# Altium integrated library TI Data Converters Digital to Analog Converter.IntLib: 1533 symbols (part 40 of 99)
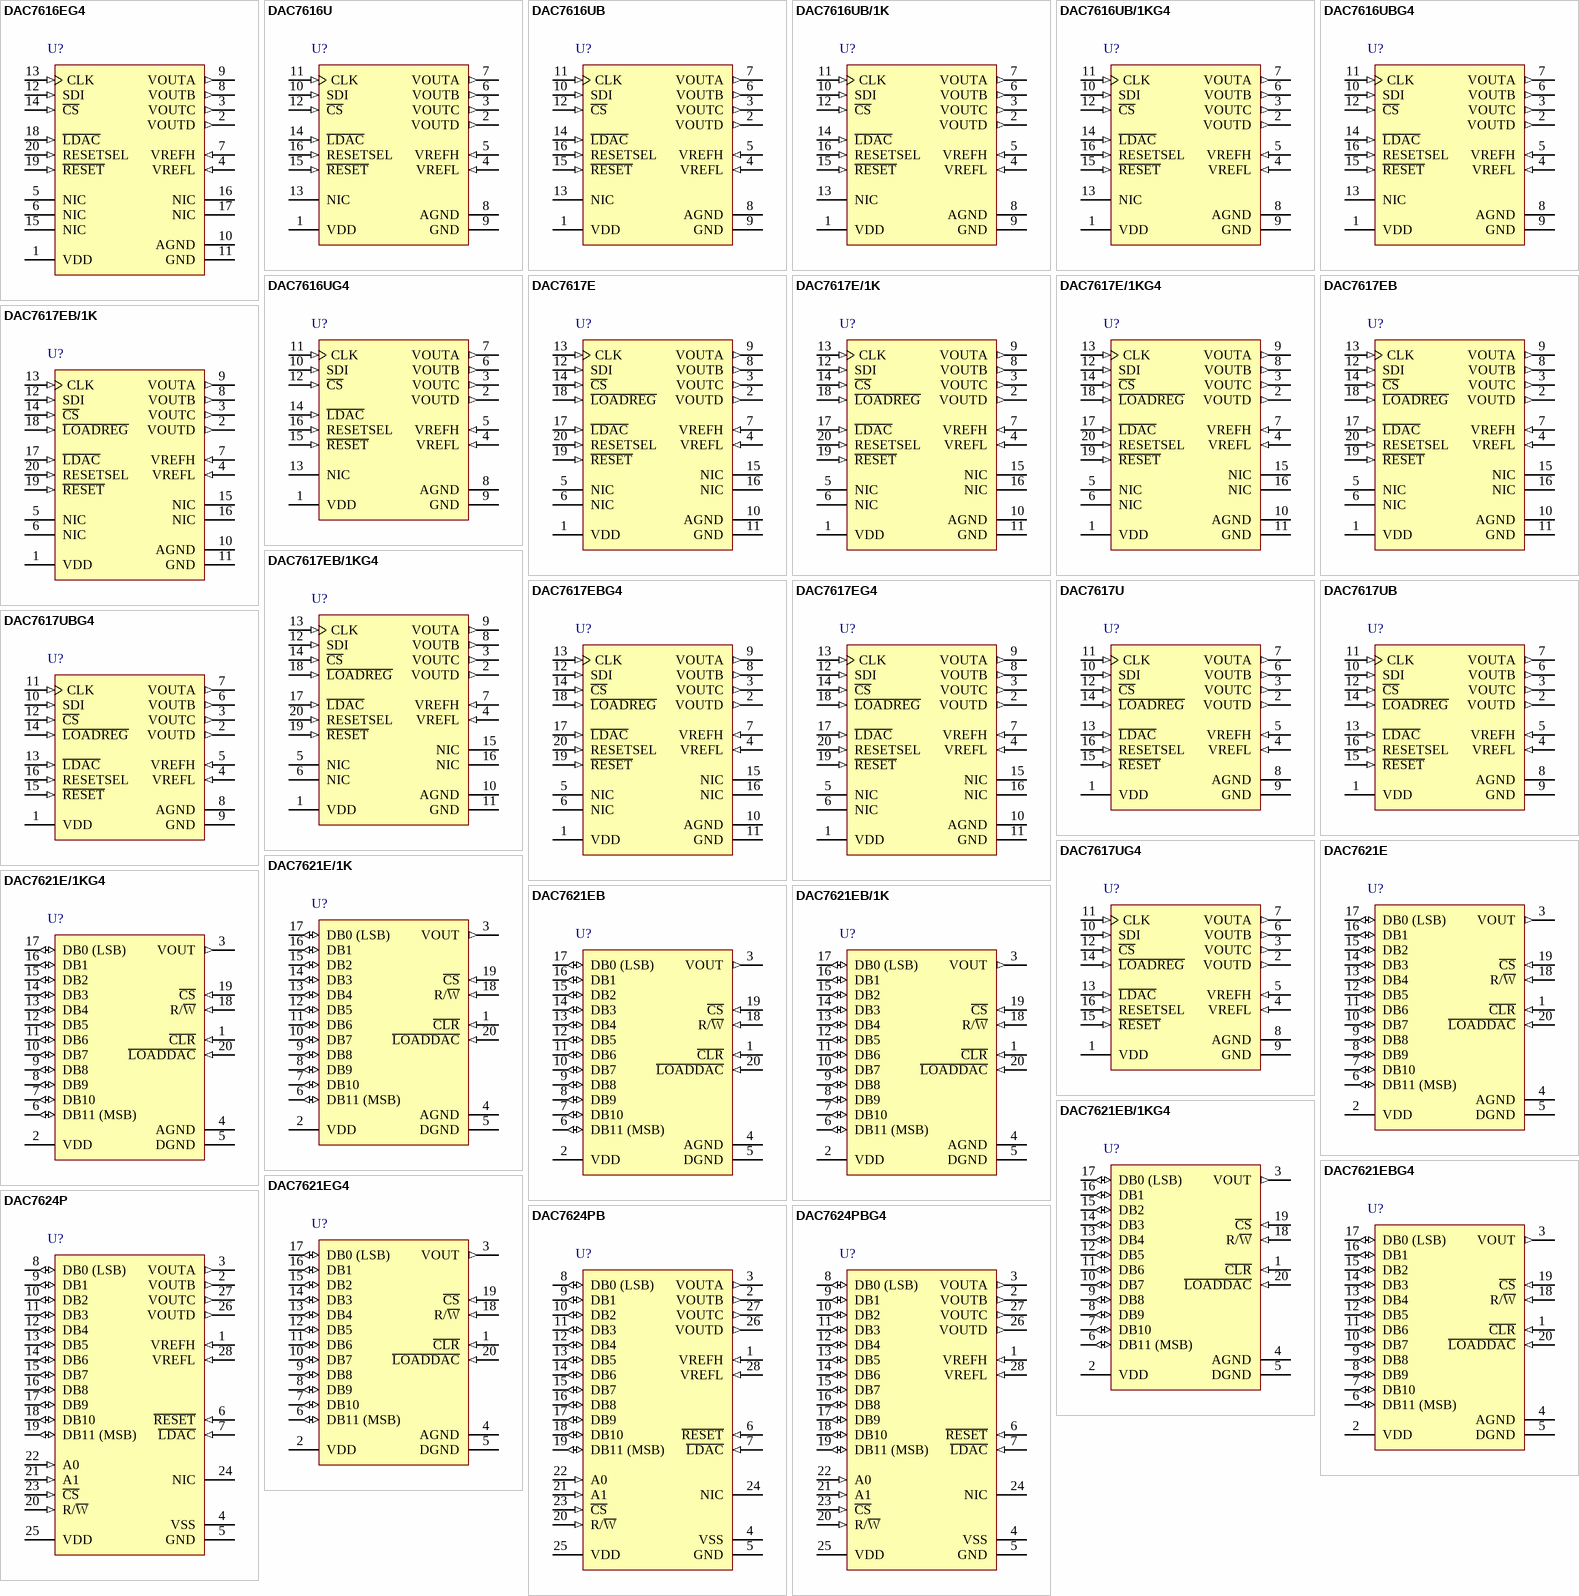
[diagram p112: symbols DAC7616EG4 to DAC7624PBG4]

## DAC7617UB
designator U?
Quad, Serial Input, 12-Bit, Voltage Output DAC, -40 to 85 degC, 16-pin SOIC (DW16), Green (RoHS & no Sb/Br); Manufacturer: Texas Instruments; PartNumber: DAC7617UB; DAC Channels: 4; DNL(Max)(+/-LSB): 1; Interface: Serial SPI; Power Consumption(Typ)(mW): 2.4; Resolution(Bits): 12; Settling Time(us): 10; SubFamily: Precision DAC (=<10MSPS); DatasheetVersion: SBAS185; PackageVersion: 4040000-2/G, 01/2011; PackageReference: DW16; PackageDescription: 16-Pin Plastic Small Outline, Body 10.30 x 7.50 mm, Pitch 1.27 mm; Supplier 1: Digi-Key; Supplier Part Number 1: DAC7617UB-ND; Supplier 2: Mouser; Supplier Part Number 2: 595-DAC7617UB; Eco-Plan: Green (RoHS & no Sb/Br); INL(Max)(+/-LSB): 1; Mounting Technology: Surface Mount; Code_JEDEC: MS-013; ComponentLink1Description: Manufacturer URL; ComponentLink1URL: http://www.ti.com/; ComponentLink2Description: Datasheet; ComponentLink2URL: http://www.ti.com/general/docs/lit/getliterature.tsp?genericPartNumber=DAC7617&fileType=pdf; ComponentLink3Description: Package Specification; ComponentLink3URL: http://www.ti.com/litv/pdf/msoi003g
footprint TI-DW16_N (SOIC, 16-Leads, Body 10.3x7.5mm, Pitch 1.27mm, IPC Medium Density)
footprint TI-DW16_L (SOIC, 16-Leads, Body 10.3x7.5mm, Pitch 1.27mm, IPC High Density)
footprint TI-DW16_M (SOIC, 16-Leads, Body 10.3x7.5mm, Pitch 1.27mm, IPC Low Density)
pins: 1 VDD (power) "Positive Analog Supply Voltage, +3V nominal.", 2 VOUTD (out) "DAC D Voltage Output", 3 VOUTC (out) "DAC C Voltage Output", 4 VREFL (in) "Reference Input Voltage Low. Sets minimum output voltage for all DACs.", 5 VREFH (in) "Reference Input Voltage High. Sets maximum output voltage for all DACs.", 6 VOUTB (out) "DAC B Voltage Output", 7 VOUTA (out) "DAC A Voltage Output", 8 AGND (power) "Analog Ground", 9 GND (power) "Ground", 10 SDI (in) "Serial Data Input", 11 CLK (in) "Serial Data Clock", 12 ~{CS} (in) "Chip Select Input", 13 ~{LDAC} (in) "All DAC registers become transparent when L\D\A\C\ is LOW. They are in the latched state when L\D\A\C\ is HIGH.", 14 ~{LOADREG} (in) "The selected input register becomes transparent when L\O\A\D\R\E\G\ is LOW. It is in the latched state when L\O\A\D\R\E\G\ is HIGH.", 15 ~{RESET} (in) "Asynchronous Reset Input. Sets DAC and input registers to either zero-scale (000H) or mid-scale (800H) when LOW. RESETSEL determines which code is active.", 16 RESETSEL (in) "When LOW, a LOW on R\E\S\E\T\ will cause the DAC and input registers to be set to code 000H. When RESETSEL is HIGH, a LOW on R\E\S\E\T\ will set the registers to code 800H."

## DAC7617UBG4
designator U?
Quad, Serial Input, 12-Bit, Voltage Output DAC, -40 to 85 degC, 16-pin SOIC (DW16), Green (RoHS & no Sb/Br); Manufacturer: Texas Instruments; PartNumber: DAC7617UBG4; DAC Channels: 4; DNL(Max)(+/-LSB): 1; Interface: Serial SPI; Power Consumption(Typ)(mW): 2.4; Resolution(Bits): 12; Settling Time(us): 10; SubFamily: Precision DAC (=<10MSPS); DatasheetVersion: SBAS185; PackageVersion: 4040000-2/G, 01/2011; PackageReference: DW16; PackageDescription: 16-Pin Plastic Small Outline, Body 10.30 x 7.50 mm, Pitch 1.27 mm; Supplier 1: Digi-Key; Supplier Part Number 1: DAC7617UBG4-ND; Supplier 2: Mouser; Supplier Part Number 2: 595-DAC7617UBG4; Eco-Plan: Green (RoHS & no Sb/Br); INL(Max)(+/-LSB): 1; Mounting Technology: Surface Mount; Code_JEDEC: MS-013; ComponentLink1Description: Manufacturer URL; ComponentLink1URL: http://www.ti.com/; ComponentLink2Description: Datasheet; ComponentLink2URL: http://www.ti.com/general/docs/lit/getliterature.tsp?genericPartNumber=DAC7617&fileType=pdf; ComponentLink3Description: Package Specification; ComponentLink3URL: http://www.ti.com/litv/pdf/msoi003g
footprint TI-DW16_N (SOIC, 16-Leads, Body 10.3x7.5mm, Pitch 1.27mm, IPC Medium Density)
footprint TI-DW16_L (SOIC, 16-Leads, Body 10.3x7.5mm, Pitch 1.27mm, IPC High Density)
footprint TI-DW16_M (SOIC, 16-Leads, Body 10.3x7.5mm, Pitch 1.27mm, IPC Low Density)
pins: 1 VDD (power) "Positive Analog Supply Voltage, +3V nominal.", 2 VOUTD (out) "DAC D Voltage Output", 3 VOUTC (out) "DAC C Voltage Output", 4 VREFL (in) "Reference Input Voltage Low. Sets minimum output voltage for all DACs.", 5 VREFH (in) "Reference Input Voltage High. Sets maximum output voltage for all DACs.", 6 VOUTB (out) "DAC B Voltage Output", 7 VOUTA (out) "DAC A Voltage Output", 8 AGND (power) "Analog Ground", 9 GND (power) "Ground", 10 SDI (in) "Serial Data Input", 11 CLK (in) "Serial Data Clock", 12 ~{CS} (in) "Chip Select Input", 13 ~{LDAC} (in) "All DAC registers become transparent when L\D\A\C\ is LOW. They are in the latched state when L\D\A\C\ is HIGH.", 14 ~{LOADREG} (in) "The selected input register becomes transparent when L\O\A\D\R\E\G\ is LOW. It is in the latched state when L\O\A\D\R\E\G\ is HIGH.", 15 ~{RESET} (in) "Asynchronous Reset Input. Sets DAC and input registers to either zero-scale (000H) or mid-scale (800H) when LOW. RESETSEL determines which code is active.", 16 RESETSEL (in) "When LOW, a LOW on R\E\S\E\T\ will cause the DAC and input registers to be set to code 000H. When RESETSEL is HIGH, a LOW on R\E\S\E\T\ will set the registers to code 800H."

## DAC7617UG4
designator U?
Quad, Serial Input, 12-Bit, Voltage Output DAC, -40 to 85 degC, 16-pin SOIC (DW16), Green (RoHS & no Sb/Br); Manufacturer: Texas Instruments; PartNumber: DAC7617UG4; DAC Channels: 4; DNL(Max)(+/-LSB): 1; INL(Max)(+/-LSB): 2; Interface: Serial SPI; Power Consumption(Typ)(mW): 2.4; Resolution(Bits): 12; Settling Time(us): 10; SubFamily: Precision DAC (=<10MSPS); DatasheetVersion: SBAS185; PackageVersion: 4040000-2/G, 01/2011; PackageReference: DW16; PackageDescription: 16-Pin Plastic Small Outline, Body 10.30 x 7.50 mm, Pitch 1.27 mm; Supplier 1: Digi-Key; Supplier Part Number 1: DAC7617UG4-ND; Supplier 2: Mouser; Supplier Part Number 2: 595-DAC7617UG4; Eco-Plan: Green (RoHS & no Sb/Br); Mounting Technology: Surface Mount; Code_JEDEC: MS-013; ComponentLink1Description: Manufacturer URL; ComponentLink1URL: http://www.ti.com/; ComponentLink2Description: Datasheet; ComponentLink2URL: http://www.ti.com/general/docs/lit/getliterature.tsp?genericPartNumber=DAC7617&fileType=pdf; ComponentLink3Description: Package Specification; ComponentLink3URL: http://www.ti.com/litv/pdf/msoi003g
footprint TI-DW16_N (SOIC, 16-Leads, Body 10.3x7.5mm, Pitch 1.27mm, IPC Medium Density)
footprint TI-DW16_L (SOIC, 16-Leads, Body 10.3x7.5mm, Pitch 1.27mm, IPC High Density)
footprint TI-DW16_M (SOIC, 16-Leads, Body 10.3x7.5mm, Pitch 1.27mm, IPC Low Density)
pins: 1 VDD (power) "Positive Analog Supply Voltage, +3V nominal.", 2 VOUTD (out) "DAC D Voltage Output", 3 VOUTC (out) "DAC C Voltage Output", 4 VREFL (in) "Reference Input Voltage Low. Sets minimum output voltage for all DACs.", 5 VREFH (in) "Reference Input Voltage High. Sets maximum output voltage for all DACs.", 6 VOUTB (out) "DAC B Voltage Output", 7 VOUTA (out) "DAC A Voltage Output", 8 AGND (power) "Analog Ground", 9 GND (power) "Ground", 10 SDI (in) "Serial Data Input", 11 CLK (in) "Serial Data Clock", 12 ~{CS} (in) "Chip Select Input", 13 ~{LDAC} (in) "All DAC registers become transparent when L\D\A\C\ is LOW. They are in the latched state when L\D\A\C\ is HIGH.", 14 ~{LOADREG} (in) "The selected input register becomes transparent when L\O\A\D\R\E\G\ is LOW. It is in the latched state when L\O\A\D\R\E\G\ is HIGH.", 15 ~{RESET} (in) "Asynchronous Reset Input. Sets DAC and input registers to either zero-scale (000H) or mid-scale (800H) when LOW. RESETSEL determines which code is active.", 16 RESETSEL (in) "When LOW, a LOW on R\E\S\E\T\ will cause the DAC and input registers to be set to code 000H. When RESETSEL is HIGH, a LOW on R\E\S\E\T\ will set the registers to code 800H."

## DAC7621E
designator U?
12-Bit, Parallel Input DAC, -40 to 85 degC, 20-pin SOP (DB20), Green (RoHS & no Sb/Br); Manufacturer: Texas Instruments; PartNumber: DAC7621E; DAC Channels: 1; Power Consumption(Typ)(mW): 2.5; Resolution(Bits): 12; Settling Time(us): 7; SubFamily: Precision DAC (=<10MSPS); DatasheetVersion: SBAS107; PackageVersion: 4040065/E, 12/2001; PackageReference: DB20; PackageDescription: 20-Pin Plastic Small Outline, Body 5.3 x 7.2 mm, Pitch 0.65 mm; Supplier 1: Mouser; Supplier Part Number 1: 595-DAC7621E; DNL(Max)(+/-LSB): 1; Eco-Plan: Green (RoHS & no Sb/Br); Interface: Parallel; Mounting Technology: Surface Mount; Code_JEDEC: MO-150; ComponentLink1Description: Manufacturer URL; ComponentLink1URL: http://www.ti.com/; ComponentLink2Description: Datasheet; ComponentLink2URL: http://www.ti.com/general/docs/lit/getliterature.tsp?genericPartNumber=DAC7621&fileType=pdf; ComponentLink3Description: Package Specification; ComponentLink3URL: http://www.ti.com/lit/ml/msso002e/msso002e.pdf
footprint TI-DB20_N (SOP, 20-Leads, Body 7.2x5.3mm, Pitch 0.65mm, IPC Medium Density)
footprint TI-DB20_L (SOP, 20-Leads, Body 7.2x5.3mm, Pitch 0.65mm, IPC High Density)
footprint TI-DB20_M (SOP, 20-Leads, Body 7.2x5.3mm, Pitch 0.65mm, IPC Low Density)
pins: 1 ~{CLR} (in) "Reset. Resets the DAC register to zero. Active LOW. Asynchronous input.", 2 VDD (power) "Postive Power Supply", 3 VOUT (out) "DAC Output Voltage", 4 AGND (power) "Analog Ground", 5 DGND (power) "Digital Ground", 6 DB11 (MSB) (io) "Data Bit 11, MSB", 7 DB10 (io) "Data Bit 10", 8 DB9 (io) "Data Bit 10", 9 DB8 (io) "Data Bit 10", 10 DB7 (io) "Data Bit 10", 11 DB6 (io) "Data Bit 10", 12 DB5 (io) "Data Bit 10", 13 DB4 (io) "Data Bit 10", 14 DB3 (io) "Data Bit 10", 15 DB2 (io) "Data Bit 10", 16 DB1 (io) "Data Bit 10", 17 DB0 (LSB) (io) "Data Bit 0, LSB", 18 R/~{W} (in) "Read and Write Control", 19 ~{CS} (in) "Chip Select. Active LOW", 20 ~{LOADDAC} (in) "Loads the internal DAC register. The DAC register is a transparent latch and is transparent when L\O\A\D\D\A\C\ is LOW (regardless of the state of C\S\ or CLK)."

## DAC7621E/1K
designator U?
12-Bit, Parallel Input DAC, -40 to 85 degC, 20-pin SOP (DB20), Green (RoHS & no Sb/Br); Manufacturer: Texas Instruments; PartNumber: DAC7621E/1K; DAC Channels: 1; Power Consumption(Typ)(mW): 2.5; Resolution(Bits): 12; Settling Time(us): 7; SubFamily: Precision DAC (=<10MSPS); DatasheetVersion: SBAS107; PackageVersion: 4040065/E, 12/2001; PackageReference: DB20; PackageDescription: 20-Pin Plastic Small Outline, Body 5.3 x 7.2 mm, Pitch 0.65 mm; Supplier 1: Digi-Key; Supplier Part Number 1: DAC7621E/1K-ND; Supplier 2: Newark; Supplier Part Number 2: 74C9204; Supplier 3: Mouser; Supplier Part Number 3: 595-DAC7621E/1K; DNL(Max)(+/-LSB): 1; Eco-Plan: Green (RoHS & no Sb/Br); Interface: Parallel; Mounting Technology: Surface Mount; Code_JEDEC: MO-150; ComponentLink1Description: Manufacturer URL; ComponentLink1URL: http://www.ti.com/; ComponentLink2Description: Datasheet; ComponentLink2URL: http://www.ti.com/general/docs/lit/getliterature.tsp?genericPartNumber=DAC7621&fileType=pdf; ComponentLink3Description: Package Specification; ComponentLink3URL: http://www.ti.com/lit/ml/msso002e/msso002e.pdf
footprint TI-DB20_N (SOP, 20-Leads, Body 7.2x5.3mm, Pitch 0.65mm, IPC Medium Density)
footprint TI-DB20_L (SOP, 20-Leads, Body 7.2x5.3mm, Pitch 0.65mm, IPC High Density)
footprint TI-DB20_M (SOP, 20-Leads, Body 7.2x5.3mm, Pitch 0.65mm, IPC Low Density)
pins: 1 ~{CLR} (in) "Reset. Resets the DAC register to zero. Active LOW. Asynchronous input.", 2 VDD (power) "Postive Power Supply", 3 VOUT (out) "DAC Output Voltage", 4 AGND (power) "Analog Ground", 5 DGND (power) "Digital Ground", 6 DB11 (MSB) (io) "Data Bit 11, MSB", 7 DB10 (io) "Data Bit 10", 8 DB9 (io) "Data Bit 10", 9 DB8 (io) "Data Bit 10", 10 DB7 (io) "Data Bit 10", 11 DB6 (io) "Data Bit 10", 12 DB5 (io) "Data Bit 10", 13 DB4 (io) "Data Bit 10", 14 DB3 (io) "Data Bit 10", 15 DB2 (io) "Data Bit 10", 16 DB1 (io) "Data Bit 10", 17 DB0 (LSB) (io) "Data Bit 0, LSB", 18 R/~{W} (in) "Read and Write Control", 19 ~{CS} (in) "Chip Select. Active LOW", 20 ~{LOADDAC} (in) "Loads the internal DAC register. The DAC register is a transparent latch and is transparent when L\O\A\D\D\A\C\ is LOW (regardless of the state of C\S\ or CLK)."

## DAC7621E/1KG4
designator U?
12-Bit, Parallel Input DAC, -40 to 85 degC, 20-pin SOP (DB20), Green (RoHS & no Sb/Br); Manufacturer: Texas Instruments; PartNumber: DAC7621E/1KG4; DAC Channels: 1; Power Consumption(Typ)(mW): 2.5; Resolution(Bits): 12; Settling Time(us): 7; SubFamily: Precision DAC (=<10MSPS); DatasheetVersion: SBAS107; PackageVersion: 4040065/E, 12/2001; PackageReference: DB20; PackageDescription: 20-Pin Plastic Small Outline, Body 5.3 x 7.2 mm, Pitch 0.65 mm; Supplier 1: Digi-Key; Supplier Part Number 1: DAC7621E/1KG4-ND; Supplier 2: Mouser; Supplier Part Number 2: 595-DAC7621E/1KG4; DNL(Max)(+/-LSB): 1; Eco-Plan: Green (RoHS & no Sb/Br); Interface: Parallel; Mounting Technology: Surface Mount; Code_JEDEC: MO-150; ComponentLink1Description: Manufacturer URL; ComponentLink1URL: http://www.ti.com/; ComponentLink2Description: Datasheet; ComponentLink2URL: http://www.ti.com/general/docs/lit/getliterature.tsp?genericPartNumber=DAC7621&fileType=pdf; ComponentLink3Description: Package Specification; ComponentLink3URL: http://www.ti.com/lit/ml/msso002e/msso002e.pdf
footprint TI-DB20_N (SOP, 20-Leads, Body 7.2x5.3mm, Pitch 0.65mm, IPC Medium Density)
footprint TI-DB20_L (SOP, 20-Leads, Body 7.2x5.3mm, Pitch 0.65mm, IPC High Density)
footprint TI-DB20_M (SOP, 20-Leads, Body 7.2x5.3mm, Pitch 0.65mm, IPC Low Density)
pins: 1 ~{CLR} (in) "Reset. Resets the DAC register to zero. Active LOW. Asynchronous input.", 2 VDD (power) "Postive Power Supply", 3 VOUT (out) "DAC Output Voltage", 4 AGND (power) "Analog Ground", 5 DGND (power) "Digital Ground", 6 DB11 (MSB) (io) "Data Bit 11, MSB", 7 DB10 (io) "Data Bit 10", 8 DB9 (io) "Data Bit 10", 9 DB8 (io) "Data Bit 10", 10 DB7 (io) "Data Bit 10", 11 DB6 (io) "Data Bit 10", 12 DB5 (io) "Data Bit 10", 13 DB4 (io) "Data Bit 10", 14 DB3 (io) "Data Bit 10", 15 DB2 (io) "Data Bit 10", 16 DB1 (io) "Data Bit 10", 17 DB0 (LSB) (io) "Data Bit 0, LSB", 18 R/~{W} (in) "Read and Write Control", 19 ~{CS} (in) "Chip Select. Active LOW", 20 ~{LOADDAC} (in) "Loads the internal DAC register. The DAC register is a transparent latch and is transparent when L\O\A\D\D\A\C\ is LOW (regardless of the state of C\S\ or CLK)."

## DAC7621EB
designator U?
12-Bit, Parallel Input DAC, -40 to 85 degC, 20-pin SOP (DB20), Green (RoHS & no Sb/Br); Manufacturer: Texas Instruments; PartNumber: DAC7621EB; DAC Channels: 1; Power Consumption(Typ)(mW): 2.5; Resolution(Bits): 12; Settling Time(us): 7; SubFamily: Precision DAC (=<10MSPS); DatasheetVersion: SBAS107; PackageVersion: 4040065/E, 12/2001; PackageReference: DB20; PackageDescription: 20-Pin Plastic Small Outline, Body 5.3 x 7.2 mm, Pitch 0.65 mm; Supplier 1: Digi-Key; Supplier Part Number 1: DAC7621EB-ND; Supplier 2: Farnell; Supplier Part Number 2: 1460216; Supplier 3: Mouser; Supplier Part Number 3: 595-DAC7621EB; DNL(Max)(+/-LSB): 1; Eco-Plan: Green (RoHS & no Sb/Br); Interface: Parallel; Mounting Technology: Surface Mount; Code_JEDEC: MO-150; ComponentLink1Description: Manufacturer URL; ComponentLink1URL: http://www.ti.com/; ComponentLink2Description: Datasheet; ComponentLink2URL: http://www.ti.com/general/docs/lit/getliterature.tsp?genericPartNumber=DAC7621&fileType=pdf; ComponentLink3Description: Package Specification; ComponentLink3URL: http://www.ti.com/lit/ml/msso002e/msso002e.pdf
footprint TI-DB20_N (SOP, 20-Leads, Body 7.2x5.3mm, Pitch 0.65mm, IPC Medium Density)
footprint TI-DB20_L (SOP, 20-Leads, Body 7.2x5.3mm, Pitch 0.65mm, IPC High Density)
footprint TI-DB20_M (SOP, 20-Leads, Body 7.2x5.3mm, Pitch 0.65mm, IPC Low Density)
pins: 1 ~{CLR} (in) "Reset. Resets the DAC register to zero. Active LOW. Asynchronous input.", 2 VDD (power) "Postive Power Supply", 3 VOUT (out) "DAC Output Voltage", 4 AGND (power) "Analog Ground", 5 DGND (power) "Digital Ground", 6 DB11 (MSB) (io) "Data Bit 11, MSB", 7 DB10 (io) "Data Bit 10", 8 DB9 (io) "Data Bit 10", 9 DB8 (io) "Data Bit 10", 10 DB7 (io) "Data Bit 10", 11 DB6 (io) "Data Bit 10", 12 DB5 (io) "Data Bit 10", 13 DB4 (io) "Data Bit 10", 14 DB3 (io) "Data Bit 10", 15 DB2 (io) "Data Bit 10", 16 DB1 (io) "Data Bit 10", 17 DB0 (LSB) (io) "Data Bit 0, LSB", 18 R/~{W} (in) "Read and Write Control", 19 ~{CS} (in) "Chip Select. Active LOW", 20 ~{LOADDAC} (in) "Loads the internal DAC register. The DAC register is a transparent latch and is transparent when L\O\A\D\D\A\C\ is LOW (regardless of the state of C\S\ or CLK)."

## DAC7621EB/1K
designator U?
12-Bit, Parallel Input DAC, -40 to 85 degC, 20-pin SOP (DB20), Green (RoHS & no Sb/Br); Manufacturer: Texas Instruments; PartNumber: DAC7621EB/1K; DAC Channels: 1; Power Consumption(Typ)(mW): 2.5; Resolution(Bits): 12; Settling Time(us): 7; SubFamily: Precision DAC (=<10MSPS); DatasheetVersion: SBAS107; PackageVersion: 4040065/E, 12/2001; PackageReference: DB20; PackageDescription: 20-Pin Plastic Small Outline, Body 5.3 x 7.2 mm, Pitch 0.65 mm; Supplier 1: Digi-Key; Supplier Part Number 1: DAC7621EB/1K-ND; Supplier 2: Mouser; Supplier Part Number 2: 595-DAC7621EB/1K; DNL(Max)(+/-LSB): 1; Eco-Plan: Green (RoHS & no Sb/Br); Interface: Parallel; Mounting Technology: Surface Mount; Code_JEDEC: MO-150; ComponentLink1Description: Manufacturer URL; ComponentLink1URL: http://www.ti.com/; ComponentLink2Description: Datasheet; ComponentLink2URL: http://www.ti.com/general/docs/lit/getliterature.tsp?genericPartNumber=DAC7621&fileType=pdf; ComponentLink3Description: Package Specification; ComponentLink3URL: http://www.ti.com/lit/ml/msso002e/msso002e.pdf
footprint TI-DB20_N (SOP, 20-Leads, Body 7.2x5.3mm, Pitch 0.65mm, IPC Medium Density)
footprint TI-DB20_L (SOP, 20-Leads, Body 7.2x5.3mm, Pitch 0.65mm, IPC High Density)
footprint TI-DB20_M (SOP, 20-Leads, Body 7.2x5.3mm, Pitch 0.65mm, IPC Low Density)
pins: 1 ~{CLR} (in) "Reset. Resets the DAC register to zero. Active LOW. Asynchronous input.", 2 VDD (power) "Postive Power Supply", 3 VOUT (out) "DAC Output Voltage", 4 AGND (power) "Analog Ground", 5 DGND (power) "Digital Ground", 6 DB11 (MSB) (io) "Data Bit 11, MSB", 7 DB10 (io) "Data Bit 10", 8 DB9 (io) "Data Bit 10", 9 DB8 (io) "Data Bit 10", 10 DB7 (io) "Data Bit 10", 11 DB6 (io) "Data Bit 10", 12 DB5 (io) "Data Bit 10", 13 DB4 (io) "Data Bit 10", 14 DB3 (io) "Data Bit 10", 15 DB2 (io) "Data Bit 10", 16 DB1 (io) "Data Bit 10", 17 DB0 (LSB) (io) "Data Bit 0, LSB", 18 R/~{W} (in) "Read and Write Control", 19 ~{CS} (in) "Chip Select. Active LOW", 20 ~{LOADDAC} (in) "Loads the internal DAC register. The DAC register is a transparent latch and is transparent when L\O\A\D\D\A\C\ is LOW (regardless of the state of C\S\ or CLK)."

## DAC7621EB/1KG4
designator U?
12-Bit, Parallel Input DAC, -40 to 85 degC, 20-pin SOP (DB20), Green (RoHS & no Sb/Br); Manufacturer: Texas Instruments; PartNumber: DAC7621EB/1KG4; DAC Channels: 1; Power Consumption(Typ)(mW): 2.5; Resolution(Bits): 12; Settling Time(us): 7; SubFamily: Precision DAC (=<10MSPS); DatasheetVersion: SBAS107; PackageVersion: 4040065/E, 12/2001; PackageReference: DB20; PackageDescription: 20-Pin Plastic Small Outline, Body 5.3 x 7.2 mm, Pitch 0.65 mm; Supplier 1: Digi-Key; Supplier Part Number 1: DAC7621EB/1KG4-ND; Supplier 2: Mouser; Supplier Part Number 2: 595-DAC7621EB/1KG4; DNL(Max)(+/-LSB): 1; Eco-Plan: Green (RoHS & no Sb/Br); Interface: Parallel; Mounting Technology: Surface Mount; Code_JEDEC: MO-150; ComponentLink1Description: Manufacturer URL; ComponentLink1URL: http://www.ti.com/; ComponentLink2Description: Datasheet; ComponentLink2URL: http://www.ti.com/general/docs/lit/getliterature.tsp?genericPartNumber=DAC7621&fileType=pdf; ComponentLink3Description: Package Specification; ComponentLink3URL: http://www.ti.com/lit/ml/msso002e/msso002e.pdf
footprint TI-DB20_N (SOP, 20-Leads, Body 7.2x5.3mm, Pitch 0.65mm, IPC Medium Density)
footprint TI-DB20_L (SOP, 20-Leads, Body 7.2x5.3mm, Pitch 0.65mm, IPC High Density)
footprint TI-DB20_M (SOP, 20-Leads, Body 7.2x5.3mm, Pitch 0.65mm, IPC Low Density)
pins: 1 ~{CLR} (in) "Reset. Resets the DAC register to zero. Active LOW. Asynchronous input.", 2 VDD (power) "Postive Power Supply", 3 VOUT (out) "DAC Output Voltage", 4 AGND (power) "Analog Ground", 5 DGND (power) "Digital Ground", 6 DB11 (MSB) (io) "Data Bit 11, MSB", 7 DB10 (io) "Data Bit 10", 8 DB9 (io) "Data Bit 10", 9 DB8 (io) "Data Bit 10", 10 DB7 (io) "Data Bit 10", 11 DB6 (io) "Data Bit 10", 12 DB5 (io) "Data Bit 10", 13 DB4 (io) "Data Bit 10", 14 DB3 (io) "Data Bit 10", 15 DB2 (io) "Data Bit 10", 16 DB1 (io) "Data Bit 10", 17 DB0 (LSB) (io) "Data Bit 0, LSB", 18 R/~{W} (in) "Read and Write Control", 19 ~{CS} (in) "Chip Select. Active LOW", 20 ~{LOADDAC} (in) "Loads the internal DAC register. The DAC register is a transparent latch and is transparent when L\O\A\D\D\A\C\ is LOW (regardless of the state of C\S\ or CLK)."

## DAC7621EBG4
designator U?
12-Bit, Parallel Input DAC, -40 to 85 degC, 20-pin SOP (DB20), Green (RoHS & no Sb/Br); Manufacturer: Texas Instruments; PartNumber: DAC7621EBG4; DAC Channels: 1; Power Consumption(Typ)(mW): 2.5; Resolution(Bits): 12; Settling Time(us): 7; SubFamily: Precision DAC (=<10MSPS); DatasheetVersion: SBAS107; PackageVersion: 4040065/E, 12/2001; PackageReference: DB20; PackageDescription: 20-Pin Plastic Small Outline, Body 5.3 x 7.2 mm, Pitch 0.65 mm; Supplier 1: Digi-Key; Supplier Part Number 1: DAC7621EBG4-ND; Supplier 2: Mouser; Supplier Part Number 2: 595-DAC7621EBG4; DNL(Max)(+/-LSB): 1; Eco-Plan: Green (RoHS & no Sb/Br); Interface: Parallel; Mounting Technology: Surface Mount; Code_JEDEC: MO-150; ComponentLink1Description: Manufacturer URL; ComponentLink1URL: http://www.ti.com/; ComponentLink2Description: Datasheet; ComponentLink2URL: http://www.ti.com/general/docs/lit/getliterature.tsp?genericPartNumber=DAC7621&fileType=pdf; ComponentLink3Description: Package Specification; ComponentLink3URL: http://www.ti.com/lit/ml/msso002e/msso002e.pdf
footprint TI-DB20_N (SOP, 20-Leads, Body 7.2x5.3mm, Pitch 0.65mm, IPC Medium Density)
footprint TI-DB20_L (SOP, 20-Leads, Body 7.2x5.3mm, Pitch 0.65mm, IPC High Density)
footprint TI-DB20_M (SOP, 20-Leads, Body 7.2x5.3mm, Pitch 0.65mm, IPC Low Density)
pins: 1 ~{CLR} (in) "Reset. Resets the DAC register to zero. Active LOW. Asynchronous input.", 2 VDD (power) "Postive Power Supply", 3 VOUT (out) "DAC Output Voltage", 4 AGND (power) "Analog Ground", 5 DGND (power) "Digital Ground", 6 DB11 (MSB) (io) "Data Bit 11, MSB", 7 DB10 (io) "Data Bit 10", 8 DB9 (io) "Data Bit 10", 9 DB8 (io) "Data Bit 10", 10 DB7 (io) "Data Bit 10", 11 DB6 (io) "Data Bit 10", 12 DB5 (io) "Data Bit 10", 13 DB4 (io) "Data Bit 10", 14 DB3 (io) "Data Bit 10", 15 DB2 (io) "Data Bit 10", 16 DB1 (io) "Data Bit 10", 17 DB0 (LSB) (io) "Data Bit 0, LSB", 18 R/~{W} (in) "Read and Write Control", 19 ~{CS} (in) "Chip Select. Active LOW", 20 ~{LOADDAC} (in) "Loads the internal DAC register. The DAC register is a transparent latch and is transparent when L\O\A\D\D\A\C\ is LOW (regardless of the state of C\S\ or CLK)."

## DAC7621EG4
designator U?
12-Bit, Parallel Input DAC, -40 to 85 degC, 20-pin SOP (DB20), Green (RoHS & no Sb/Br); Manufacturer: Texas Instruments; PartNumber: DAC7621EG4; DAC Channels: 1; Power Consumption(Typ)(mW): 2.5; Resolution(Bits): 12; Settling Time(us): 7; SubFamily: Precision DAC (=<10MSPS); DatasheetVersion: SBAS107; PackageVersion: 4040065/E, 12/2001; PackageReference: DB20; PackageDescription: 20-Pin Plastic Small Outline, Body 5.3 x 7.2 mm, Pitch 0.65 mm; Supplier 1: Digi-Key; Supplier Part Number 1: DAC7621EG4-ND; Supplier 2: Mouser; Supplier Part Number 2: 595-DAC7621EG4; DNL(Max)(+/-LSB): 1; Eco-Plan: Green (RoHS & no Sb/Br); Interface: Parallel; Mounting Technology: Surface Mount; Code_JEDEC: MO-150; ComponentLink1Description: Manufacturer URL; ComponentLink1URL: http://www.ti.com/; ComponentLink2Description: Datasheet; ComponentLink2URL: http://www.ti.com/general/docs/lit/getliterature.tsp?genericPartNumber=DAC7621&fileType=pdf; ComponentLink3Description: Package Specification; ComponentLink3URL: http://www.ti.com/lit/ml/msso002e/msso002e.pdf
footprint TI-DB20_N (SOP, 20-Leads, Body 7.2x5.3mm, Pitch 0.65mm, IPC Medium Density)
footprint TI-DB20_L (SOP, 20-Leads, Body 7.2x5.3mm, Pitch 0.65mm, IPC High Density)
footprint TI-DB20_M (SOP, 20-Leads, Body 7.2x5.3mm, Pitch 0.65mm, IPC Low Density)
pins: 1 ~{CLR} (in) "Reset. Resets the DAC register to zero. Active LOW. Asynchronous input.", 2 VDD (power) "Postive Power Supply", 3 VOUT (out) "DAC Output Voltage", 4 AGND (power) "Analog Ground", 5 DGND (power) "Digital Ground", 6 DB11 (MSB) (io) "Data Bit 11, MSB", 7 DB10 (io) "Data Bit 10", 8 DB9 (io) "Data Bit 10", 9 DB8 (io) "Data Bit 10", 10 DB7 (io) "Data Bit 10", 11 DB6 (io) "Data Bit 10", 12 DB5 (io) "Data Bit 10", 13 DB4 (io) "Data Bit 10", 14 DB3 (io) "Data Bit 10", 15 DB2 (io) "Data Bit 10", 16 DB1 (io) "Data Bit 10", 17 DB0 (LSB) (io) "Data Bit 0, LSB", 18 R/~{W} (in) "Read and Write Control", 19 ~{CS} (in) "Chip Select. Active LOW", 20 ~{LOADDAC} (in) "Loads the internal DAC register. The DAC register is a transparent latch and is transparent when L\O\A\D\D\A\C\ is LOW (regardless of the state of C\S\ or CLK)."

## DAC7624P
designator U?
12-Bit Quad Voltage Output DAC, -40 to 85 degC, 28-pin DIP (NTD28), Green (RoHS & no Sb/Br); Manufacturer: Texas Instruments; PartNumber: DAC7624P; DAC Channels: 4; DNL(Max)(+/-LSB): 1; INL(Max)(+/-LSB): 2; Interface: Parallel; Power Consumption(Typ)(mW): 15; Resolution(Bits): 12; Settling Time(us): 10; SubFamily: Precision DAC (=<10MSPS); DatasheetVersion: SBAS083; PackageVersion: 4202496/A, 03/2001; PackageReference: NTD28; PackageDescription: 28-Pin Plastic Dual-In-Line, Body 37.4 x 13.525 mm, Pitch 2.54 mm; Supplier 1: Digi-Key; Supplier Part Number 1: DAC7624P-ND; Supplier 2: Mouser; Supplier Part Number 2: 595-DAC7624P; Eco-Plan: Green (RoHS & no Sb/Br); Mounting Technology: Through Hole; Code_JEDEC: MS-011-AB; ComponentLink1Description: Manufacturer URL; ComponentLink1URL: http://www.ti.com/; ComponentLink2Description: Datasheet; ComponentLink2URL: http://www.ti.com/general/docs/lit/getliterature.tsp?genericPartNumber=DAC7624&fileType=pdf; ComponentLink3Description: Package Specification; ComponentLink3URL: http://www.ti.com/litv/pdf/mpdi056
footprint TI-NTD28 (DIP, 28-Leads, Body 37.4x13.525mm, Pitch 2.54mm)
pins: 1 VREFH (in) "Reference Input Voltage High. Sets maximum output voltage for all DACs.", 2 VOUTB (out) "DAC B Voltage Output.", 3 VOUTA (out) "DAC A Voltage Output.", 4 VSS (power) "Negative Analog Supply Voltage, 0V or -5V.", 5 GND (power) "Ground.", 6 ~{RESET} (in) "Asynchronous Reset Input. Sets DAC and input registers to either mid-scale (800H, DAC7624) or zero-scale (000H, DAC7625) when LOW.", 7 ~{LDAC} (in) "Load DAC Input. All DAC Registers are transparent when LOW.", 8 DB0 (LSB) (io) "Data Bit 0. Least significant bit of 12-bit word.", 9 DB1 (io) "Data Bit 1", 10 DB2 (io) "Data Bit 2", 11 DB3 (io) "Data Bit 3", 12 DB4 (io) "Data Bit 4", 13 DB5 (io) "Data Bit 5", 14 DB6 (io) "Data Bit 6", 15 DB7 (io) "Data Bit 7", 16 DB8 (io) "Data Bit 8", 17 DB9 (io) "Data Bit 9", 18 DB10 (io) "Data Bit 10", 19 DB11 (MSB) (io) "Data Bit 11. Most significant bit of 12-bit word.", 20 R/~{W} (in) "Read/Write Control Input (read = HIGH, write = LOW).", 21 A1 (in) "Register/DAC Select (C or D = HIGH, A or B = LOW).", 22 A0 (in) "Register/DAC Select (B or D = HIGH, A or C = LOW).", 23 ~{CS} (in) "Chip Select Input.", 24 NIC "Not Internally Connected. Pin has no internal connection to the device.", 25 VDD (power) "Positive Analog Supply Voltage, +5V nominal.", 26 VOUTD (out) "DAC D Voltage Output.", 27 VOUTC (out) "DAC C Voltage Output.", 28 VREFL (in) "Reference Input Voltage Low. Sets minimum output voltage for all DACs."

## DAC7624PB
designator U?
12-Bit Quad Voltage Output DAC, -40 to 85 degC, 28-pin DIP (NTD28), Green (RoHS & no Sb/Br); Manufacturer: Texas Instruments; PartNumber: DAC7624PB; DAC Channels: 4; DNL(Max)(+/-LSB): 1; Interface: Parallel; Power Consumption(Typ)(mW): 15; Resolution(Bits): 12; Settling Time(us): 10; SubFamily: Precision DAC (=<10MSPS); DatasheetVersion: SBAS083; PackageVersion: 4202496/A, 03/2001; PackageReference: NTD28; PackageDescription: 28-Pin Plastic Dual-In-Line, Body 37.4 x 13.525 mm, Pitch 2.54 mm; Supplier 1: Digi-Key; Supplier Part Number 1: DAC7624PB-ND; Supplier 2: Mouser; Supplier Part Number 2: 595-DAC7624PB; Eco-Plan: Green (RoHS & no Sb/Br); INL(Max)(+/-LSB): 1; Mounting Technology: Through Hole; Code_JEDEC: MS-011-AB; ComponentLink1Description: Manufacturer URL; ComponentLink1URL: http://www.ti.com/; ComponentLink2Description: Datasheet; ComponentLink2URL: http://www.ti.com/general/docs/lit/getliterature.tsp?genericPartNumber=DAC7624&fileType=pdf; ComponentLink3Description: Package Specification; ComponentLink3URL: http://www.ti.com/litv/pdf/mpdi056
footprint TI-NTD28 (DIP, 28-Leads, Body 37.4x13.525mm, Pitch 2.54mm)
pins: 1 VREFH (in) "Reference Input Voltage High. Sets maximum output voltage for all DACs.", 2 VOUTB (out) "DAC B Voltage Output.", 3 VOUTA (out) "DAC A Voltage Output.", 4 VSS (power) "Negative Analog Supply Voltage, 0V or -5V.", 5 GND (power) "Ground.", 6 ~{RESET} (in) "Asynchronous Reset Input. Sets DAC and input registers to either mid-scale (800H, DAC7624) or zero-scale (000H, DAC7625) when LOW.", 7 ~{LDAC} (in) "Load DAC Input. All DAC Registers are transparent when LOW.", 8 DB0 (LSB) (io) "Data Bit 0. Least significant bit of 12-bit word.", 9 DB1 (io) "Data Bit 1", 10 DB2 (io) "Data Bit 2", 11 DB3 (io) "Data Bit 3", 12 DB4 (io) "Data Bit 4", 13 DB5 (io) "Data Bit 5", 14 DB6 (io) "Data Bit 6", 15 DB7 (io) "Data Bit 7", 16 DB8 (io) "Data Bit 8", 17 DB9 (io) "Data Bit 9", 18 DB10 (io) "Data Bit 10", 19 DB11 (MSB) (io) "Data Bit 11. Most significant bit of 12-bit word.", 20 R/~{W} (in) "Read/Write Control Input (read = HIGH, write = LOW).", 21 A1 (in) "Register/DAC Select (C or D = HIGH, A or B = LOW).", 22 A0 (in) "Register/DAC Select (B or D = HIGH, A or C = LOW).", 23 ~{CS} (in) "Chip Select Input.", 24 NIC "Not Internally Connected. Pin has no internal connection to the device.", 25 VDD (power) "Positive Analog Supply Voltage, +5V nominal.", 26 VOUTD (out) "DAC D Voltage Output.", 27 VOUTC (out) "DAC C Voltage Output.", 28 VREFL (in) "Reference Input Voltage Low. Sets minimum output voltage for all DACs."

## DAC7624PBG4
designator U?
12-Bit Quad Voltage Output DAC, -40 to 85 degC, 28-pin DIP (NTD28), Green (RoHS & no Sb/Br); Manufacturer: Texas Instruments; PartNumber: DAC7624PBG4; DAC Channels: 4; DNL(Max)(+/-LSB): 1; Interface: Parallel; Power Consumption(Typ)(mW): 15; Resolution(Bits): 12; Settling Time(us): 10; SubFamily: Precision DAC (=<10MSPS); DatasheetVersion: SBAS083; PackageVersion: 4202496/A, 03/2001; PackageReference: NTD28; PackageDescription: 28-Pin Plastic Dual-In-Line, Body 37.4 x 13.525 mm, Pitch 2.54 mm; Supplier 1: Digi-Key; Supplier Part Number 1: DAC7624PBG4-ND; Supplier 2: Mouser; Supplier Part Number 2: 595-DAC7624PBG4; Eco-Plan: Green (RoHS & no Sb/Br); INL(Max)(+/-LSB): 1; Mounting Technology: Through Hole; Code_JEDEC: MS-011-AB; ComponentLink1Description: Manufacturer URL; ComponentLink1URL: http://www.ti.com/; ComponentLink2Description: Datasheet; ComponentLink2URL: http://www.ti.com/general/docs/lit/getliterature.tsp?genericPartNumber=DAC7624&fileType=pdf; ComponentLink3Description: Package Specification; ComponentLink3URL: http://www.ti.com/litv/pdf/mpdi056
footprint TI-NTD28 (DIP, 28-Leads, Body 37.4x13.525mm, Pitch 2.54mm)
pins: 1 VREFH (in) "Reference Input Voltage High. Sets maximum output voltage for all DACs.", 2 VOUTB (out) "DAC B Voltage Output.", 3 VOUTA (out) "DAC A Voltage Output.", 4 VSS (power) "Negative Analog Supply Voltage, 0V or -5V.", 5 GND (power) "Ground.", 6 ~{RESET} (in) "Asynchronous Reset Input. Sets DAC and input registers to either mid-scale (800H, DAC7624) or zero-scale (000H, DAC7625) when LOW.", 7 ~{LDAC} (in) "Load DAC Input. All DAC Registers are transparent when LOW.", 8 DB0 (LSB) (io) "Data Bit 0. Least significant bit of 12-bit word.", 9 DB1 (io) "Data Bit 1", 10 DB2 (io) "Data Bit 2", 11 DB3 (io) "Data Bit 3", 12 DB4 (io) "Data Bit 4", 13 DB5 (io) "Data Bit 5", 14 DB6 (io) "Data Bit 6", 15 DB7 (io) "Data Bit 7", 16 DB8 (io) "Data Bit 8", 17 DB9 (io) "Data Bit 9", 18 DB10 (io) "Data Bit 10", 19 DB11 (MSB) (io) "Data Bit 11. Most significant bit of 12-bit word.", 20 R/~{W} (in) "Read/Write Control Input (read = HIGH, write = LOW).", 21 A1 (in) "Register/DAC Select (C or D = HIGH, A or B = LOW).", 22 A0 (in) "Register/DAC Select (B or D = HIGH, A or C = LOW).", 23 ~{CS} (in) "Chip Select Input.", 24 NIC "Not Internally Connected. Pin has no internal connection to the device.", 25 VDD (power) "Positive Analog Supply Voltage, +5V nominal.", 26 VOUTD (out) "DAC D Voltage Output.", 27 VOUTC (out) "DAC C Voltage Output.", 28 VREFL (in) "Reference Input Voltage Low. Sets minimum output voltage for all DACs."

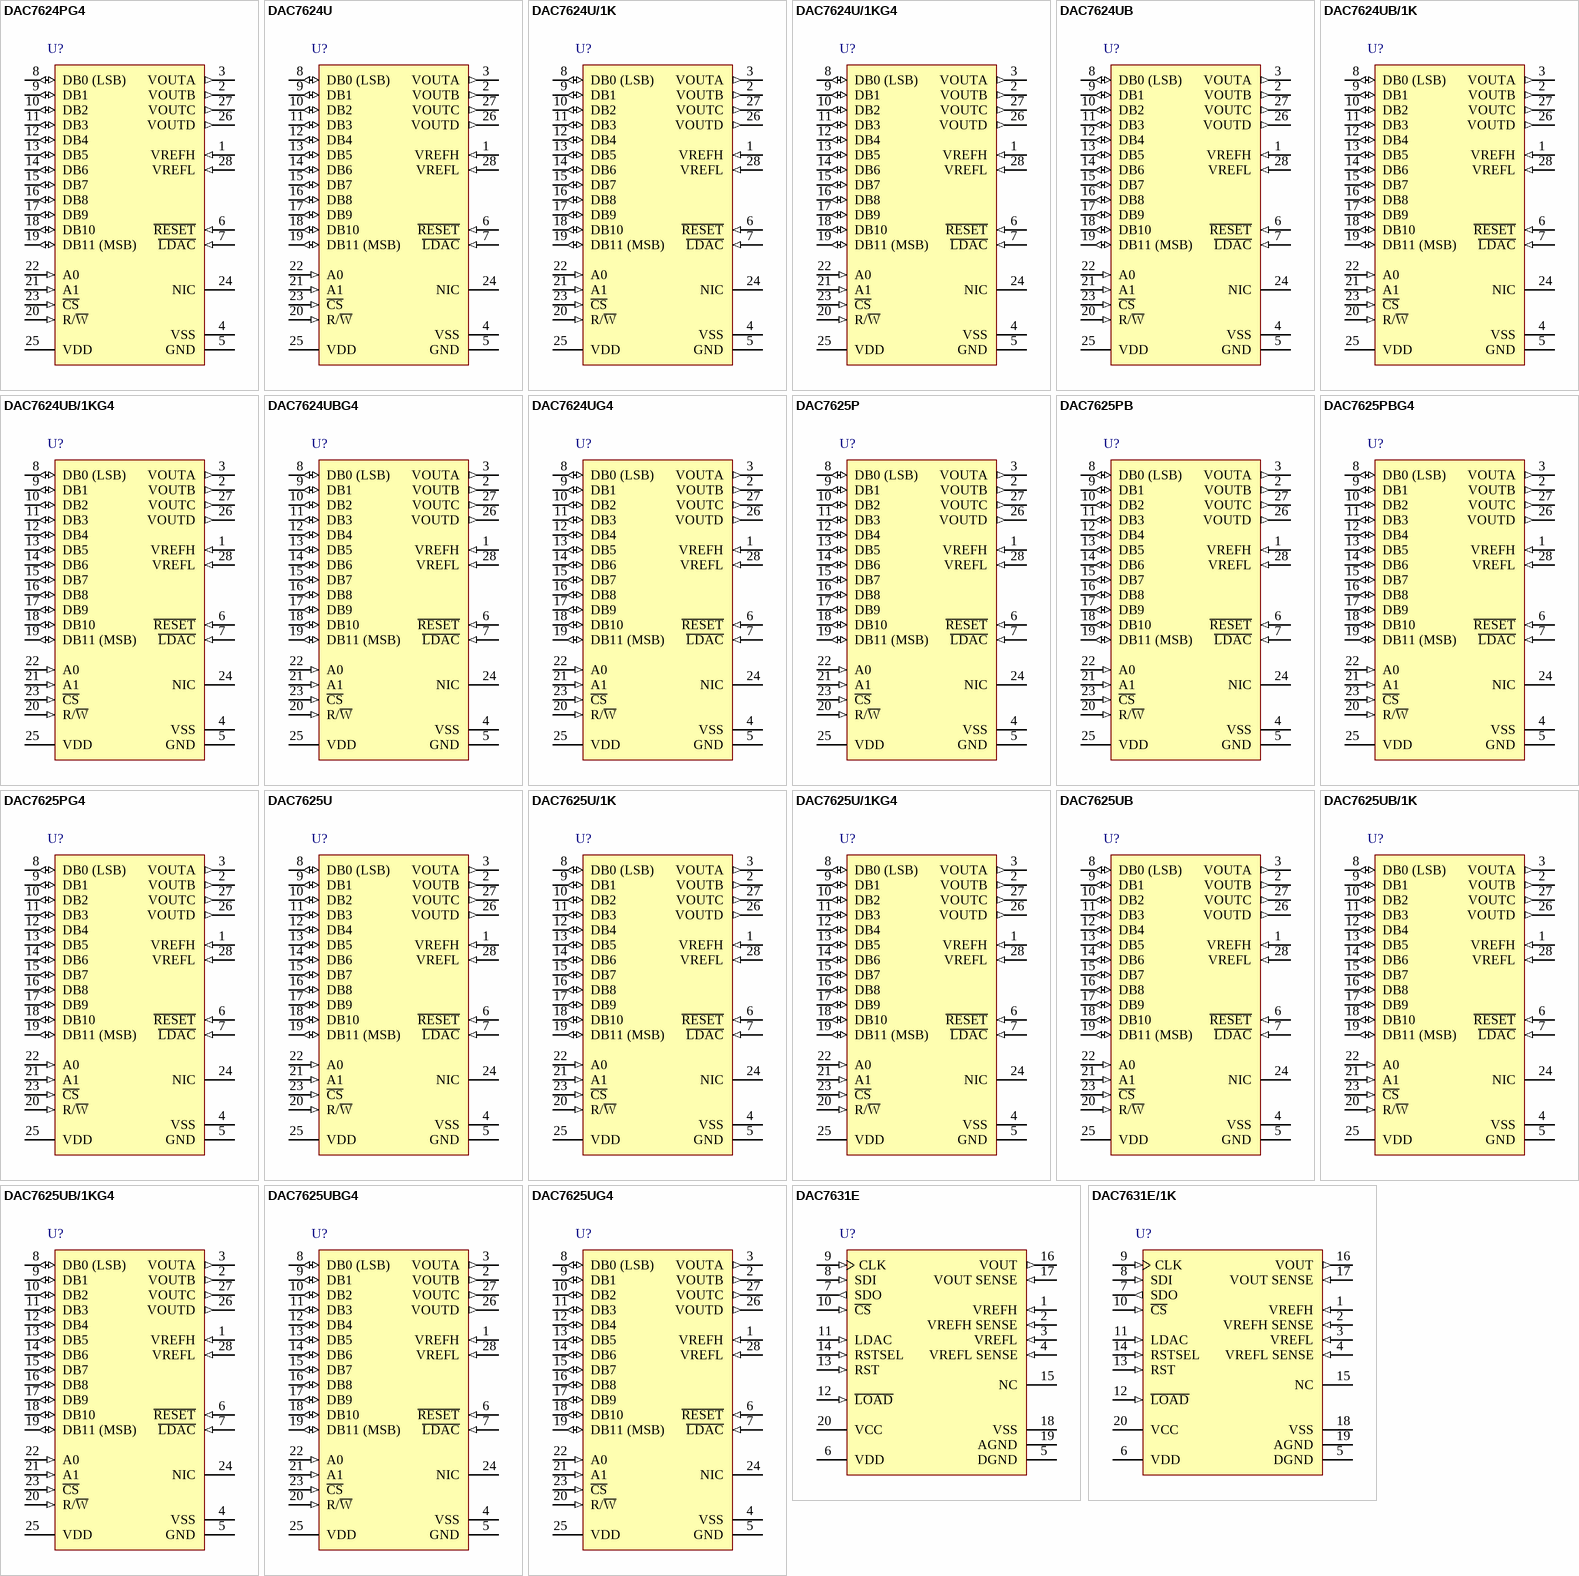
[diagram p29: symbols DAC7624PG4 to DAC7631E/1K]

## DAC7624PG4
designator U?
12-Bit Quad Voltage Output DAC, -40 to 85 degC, 28-pin DIP (NTD28), Green (RoHS & no Sb/Br); Manufacturer: Texas Instruments; PartNumber: DAC7624PG4; DAC Channels: 4; DNL(Max)(+/-LSB): 1; INL(Max)(+/-LSB): 2; Interface: Parallel; Power Consumption(Typ)(mW): 15; Resolution(Bits): 12; Settling Time(us): 10; SubFamily: Precision DAC (=<10MSPS); DatasheetVersion: SBAS083; PackageVersion: 4202496/A, 03/2001; PackageReference: NTD28; PackageDescription: 28-Pin Plastic Dual-In-Line, Body 37.4 x 13.525 mm, Pitch 2.54 mm; Supplier 1: Digi-Key; Supplier Part Number 1: DAC7624PG4-ND; Supplier 2: Mouser; Supplier Part Number 2: 595-DAC7624PG4; Eco-Plan: Green (RoHS & no Sb/Br); Mounting Technology: Through Hole; Code_JEDEC: MS-011-AB; ComponentLink1Description: Manufacturer URL; ComponentLink1URL: http://www.ti.com/; ComponentLink2Description: Datasheet; ComponentLink2URL: http://www.ti.com/general/docs/lit/getliterature.tsp?genericPartNumber=DAC7624&fileType=pdf; ComponentLink3Description: Package Specification; ComponentLink3URL: http://www.ti.com/litv/pdf/mpdi056
footprint TI-NTD28 (DIP, 28-Leads, Body 37.4x13.525mm, Pitch 2.54mm)
pins: 1 VREFH (in) "Reference Input Voltage High. Sets maximum output voltage for all DACs.", 2 VOUTB (out) "DAC B Voltage Output.", 3 VOUTA (out) "DAC A Voltage Output.", 4 VSS (power) "Negative Analog Supply Voltage, 0V or -5V.", 5 GND (power) "Ground.", 6 ~{RESET} (in) "Asynchronous Reset Input. Sets DAC and input registers to either mid-scale (800H, DAC7624) or zero-scale (000H, DAC7625) when LOW.", 7 ~{LDAC} (in) "Load DAC Input. All DAC Registers are transparent when LOW.", 8 DB0 (LSB) (io) "Data Bit 0. Least significant bit of 12-bit word.", 9 DB1 (io) "Data Bit 1", 10 DB2 (io) "Data Bit 2", 11 DB3 (io) "Data Bit 3", 12 DB4 (io) "Data Bit 4", 13 DB5 (io) "Data Bit 5", 14 DB6 (io) "Data Bit 6", 15 DB7 (io) "Data Bit 7", 16 DB8 (io) "Data Bit 8", 17 DB9 (io) "Data Bit 9", 18 DB10 (io) "Data Bit 10", 19 DB11 (MSB) (io) "Data Bit 11. Most significant bit of 12-bit word.", 20 R/~{W} (in) "Read/Write Control Input (read = HIGH, write = LOW).", 21 A1 (in) "Register/DAC Select (C or D = HIGH, A or B = LOW).", 22 A0 (in) "Register/DAC Select (B or D = HIGH, A or C = LOW).", 23 ~{CS} (in) "Chip Select Input.", 24 NIC "Not Internally Connected. Pin has no internal connection to the device.", 25 VDD (power) "Positive Analog Supply Voltage, +5V nominal.", 26 VOUTD (out) "DAC D Voltage Output.", 27 VOUTC (out) "DAC C Voltage Output.", 28 VREFL (in) "Reference Input Voltage Low. Sets minimum output voltage for all DACs."

## DAC7624U
designator U?
12-Bit Quad Voltage Output DAC, -40 to 85 degC, 28-pin SOIC (DW28), Green (RoHS & no Sb/Br); Manufacturer: Texas Instruments; PartNumber: DAC7624U; DAC Channels: 4; DNL(Max)(+/-LSB): 1; INL(Max)(+/-LSB): 2; Interface: Parallel; Power Consumption(Typ)(mW): 15; Resolution(Bits): 12; Settling Time(us): 10; SubFamily: Precision DAC (=<10MSPS); DatasheetVersion: SBAS083; PackageVersion: 4040000-6/G, 01/2011; PackageReference: DW28; PackageDescription: 28-Pin Plastic Small Outline, Body 17.90 x 7.50 mm, Pitch 1.27 mm; Supplier 1: Digi-Key; Supplier Part Number 1: DAC7624U-ND; Supplier 2: Farnell; Supplier Part Number 2: 1212272; Supplier 3: Newark; Supplier Part Number 3: 01M7297; Supplier 4: Newark; Supplier Part Number 4: 35C1638; Supplier 5: Mouser; Supplier Part Number 5: 595-DAC7624U; Eco-Plan: Green (RoHS & no Sb/Br); Mounting Technology: Surface Mount; Code_JEDEC: MS-013; ComponentLink1Description: Manufacturer URL; ComponentLink1URL: http://www.ti.com/; ComponentLink2Description: Datasheet; ComponentLink2URL: http://www.ti.com/general/docs/lit/getliterature.tsp?genericPartNumber=DAC7624&fileType=pdf; ComponentLink3Description: Package Specification; ComponentLink3URL: http://www.ti.com/lit/ml/mpds175a/mpds175a.pdf
footprint TI-DW28_N (SOIC, 28-Leads, Body 17.9x7.5mm, Pitch 1.27mm, IPC Medium Density)
footprint TI-DW28_L (SOIC, 28-Leads, Body 17.9x7.5mm, Pitch 1.27mm, IPC High Density)
footprint TI-DW28_M (SOIC, 28-Leads, Body 17.9x7.5mm, Pitch 1.27mm, IPC Low Density)
pins: 1 VREFH (in) "Reference Input Voltage High. Sets maximum output voltage for all DACs.", 2 VOUTB (out) "DAC B Voltage Output.", 3 VOUTA (out) "DAC A Voltage Output.", 4 VSS (power) "Negative Analog Supply Voltage, 0V or -5V.", 5 GND (power) "Ground.", 6 ~{RESET} (in) "Asynchronous Reset Input. Sets DAC and input registers to either mid-scale (800H, DAC7624) or zero-scale (000H, DAC7625) when LOW.", 7 ~{LDAC} (in) "Load DAC Input. All DAC Registers are transparent when LOW.", 8 DB0 (LSB) (io) "Data Bit 0. Least significant bit of 12-bit word.", 9 DB1 (io) "Data Bit 1", 10 DB2 (io) "Data Bit 2", 11 DB3 (io) "Data Bit 3", 12 DB4 (io) "Data Bit 4", 13 DB5 (io) "Data Bit 5", 14 DB6 (io) "Data Bit 6", 15 DB7 (io) "Data Bit 7", 16 DB8 (io) "Data Bit 8", 17 DB9 (io) "Data Bit 9", 18 DB10 (io) "Data Bit 10", 19 DB11 (MSB) (io) "Data Bit 11. Most significant bit of 12-bit word.", 20 R/~{W} (in) "Read/Write Control Input (read = HIGH, write = LOW).", 21 A1 (in) "Register/DAC Select (C or D = HIGH, A or B = LOW).", 22 A0 (in) "Register/DAC Select (B or D = HIGH, A or C = LOW).", 23 ~{CS} (in) "Chip Select Input.", 24 NIC "Not Internally Connected. Pin has no internal connection to the device.", 25 VDD (power) "Positive Analog Supply Voltage, +5V nominal.", 26 VOUTD (out) "DAC D Voltage Output.", 27 VOUTC (out) "DAC C Voltage Output.", 28 VREFL (in) "Reference Input Voltage Low. Sets minimum output voltage for all DACs."

## DAC7624U/1K
designator U?
12-Bit Quad Voltage Output DAC, -40 to 85 degC, 28-pin SOIC (DW28), Green (RoHS & no Sb/Br); Manufacturer: Texas Instruments; PartNumber: DAC7624U/1K; DAC Channels: 4; DNL(Max)(+/-LSB): 1; INL(Max)(+/-LSB): 2; Interface: Parallel; Power Consumption(Typ)(mW): 15; Resolution(Bits): 12; Settling Time(us): 10; SubFamily: Precision DAC (=<10MSPS); DatasheetVersion: SBAS083; PackageVersion: 4040000-6/G, 01/2011; PackageReference: DW28; PackageDescription: 28-Pin Plastic Small Outline, Body 17.90 x 7.50 mm, Pitch 1.27 mm; Supplier 1: Digi-Key; Supplier Part Number 1: DAC7624U/1K-ND; Supplier 2: Newark; Supplier Part Number 2: 74C9208; Supplier 3: Mouser; Supplier Part Number 3: 595-DAC7624U/1K; Eco-Plan: Green (RoHS & no Sb/Br); Mounting Technology: Surface Mount; Code_JEDEC: MS-013; ComponentLink1Description: Manufacturer URL; ComponentLink1URL: http://www.ti.com/; ComponentLink2Description: Datasheet; ComponentLink2URL: http://www.ti.com/general/docs/lit/getliterature.tsp?genericPartNumber=DAC7624&fileType=pdf; ComponentLink3Description: Package Specification; ComponentLink3URL: http://www.ti.com/lit/ml/mpds175a/mpds175a.pdf
footprint TI-DW28_N (SOIC, 28-Leads, Body 17.9x7.5mm, Pitch 1.27mm, IPC Medium Density)
footprint TI-DW28_L (SOIC, 28-Leads, Body 17.9x7.5mm, Pitch 1.27mm, IPC High Density)
footprint TI-DW28_M (SOIC, 28-Leads, Body 17.9x7.5mm, Pitch 1.27mm, IPC Low Density)
pins: 1 VREFH (in) "Reference Input Voltage High. Sets maximum output voltage for all DACs.", 2 VOUTB (out) "DAC B Voltage Output.", 3 VOUTA (out) "DAC A Voltage Output.", 4 VSS (power) "Negative Analog Supply Voltage, 0V or -5V.", 5 GND (power) "Ground.", 6 ~{RESET} (in) "Asynchronous Reset Input. Sets DAC and input registers to either mid-scale (800H, DAC7624) or zero-scale (000H, DAC7625) when LOW.", 7 ~{LDAC} (in) "Load DAC Input. All DAC Registers are transparent when LOW.", 8 DB0 (LSB) (io) "Data Bit 0. Least significant bit of 12-bit word.", 9 DB1 (io) "Data Bit 1", 10 DB2 (io) "Data Bit 2", 11 DB3 (io) "Data Bit 3", 12 DB4 (io) "Data Bit 4", 13 DB5 (io) "Data Bit 5", 14 DB6 (io) "Data Bit 6", 15 DB7 (io) "Data Bit 7", 16 DB8 (io) "Data Bit 8", 17 DB9 (io) "Data Bit 9", 18 DB10 (io) "Data Bit 10", 19 DB11 (MSB) (io) "Data Bit 11. Most significant bit of 12-bit word.", 20 R/~{W} (in) "Read/Write Control Input (read = HIGH, write = LOW).", 21 A1 (in) "Register/DAC Select (C or D = HIGH, A or B = LOW).", 22 A0 (in) "Register/DAC Select (B or D = HIGH, A or C = LOW).", 23 ~{CS} (in) "Chip Select Input.", 24 NIC "Not Internally Connected. Pin has no internal connection to the device.", 25 VDD (power) "Positive Analog Supply Voltage, +5V nominal.", 26 VOUTD (out) "DAC D Voltage Output.", 27 VOUTC (out) "DAC C Voltage Output.", 28 VREFL (in) "Reference Input Voltage Low. Sets minimum output voltage for all DACs."

## DAC7624U/1KG4
designator U?
12-Bit Quad Voltage Output DAC, -40 to 85 degC, 28-pin SOIC (DW28), Green (RoHS & no Sb/Br); Manufacturer: Texas Instruments; PartNumber: DAC7624U/1KG4; DAC Channels: 4; DNL(Max)(+/-LSB): 1; INL(Max)(+/-LSB): 2; Interface: Parallel; Power Consumption(Typ)(mW): 15; Resolution(Bits): 12; Settling Time(us): 10; SubFamily: Precision DAC (=<10MSPS); DatasheetVersion: SBAS083; PackageVersion: 4040000-6/G, 01/2011; PackageReference: DW28; PackageDescription: 28-Pin Plastic Small Outline, Body 17.90 x 7.50 mm, Pitch 1.27 mm; Supplier 1: Digi-Key; Supplier Part Number 1: DAC7624U/1KG4-ND; Supplier 2: Newark; Supplier Part Number 2: 18M1989; Supplier 3: Mouser; Supplier Part Number 3: 595-DAC7624U/1KG4; Eco-Plan: Green (RoHS & no Sb/Br); Mounting Technology: Surface Mount; Code_JEDEC: MS-013; ComponentLink1Description: Manufacturer URL; ComponentLink1URL: http://www.ti.com/; ComponentLink2Description: Datasheet; ComponentLink2URL: http://www.ti.com/general/docs/lit/getliterature.tsp?genericPartNumber=DAC7624&fileType=pdf; ComponentLink3Description: Package Specification; ComponentLink3URL: http://www.ti.com/lit/ml/mpds175a/mpds175a.pdf
footprint TI-DW28_N (SOIC, 28-Leads, Body 17.9x7.5mm, Pitch 1.27mm, IPC Medium Density)
footprint TI-DW28_L (SOIC, 28-Leads, Body 17.9x7.5mm, Pitch 1.27mm, IPC High Density)
footprint TI-DW28_M (SOIC, 28-Leads, Body 17.9x7.5mm, Pitch 1.27mm, IPC Low Density)
pins: 1 VREFH (in) "Reference Input Voltage High. Sets maximum output voltage for all DACs.", 2 VOUTB (out) "DAC B Voltage Output.", 3 VOUTA (out) "DAC A Voltage Output.", 4 VSS (power) "Negative Analog Supply Voltage, 0V or -5V.", 5 GND (power) "Ground.", 6 ~{RESET} (in) "Asynchronous Reset Input. Sets DAC and input registers to either mid-scale (800H, DAC7624) or zero-scale (000H, DAC7625) when LOW.", 7 ~{LDAC} (in) "Load DAC Input. All DAC Registers are transparent when LOW.", 8 DB0 (LSB) (io) "Data Bit 0. Least significant bit of 12-bit word.", 9 DB1 (io) "Data Bit 1", 10 DB2 (io) "Data Bit 2", 11 DB3 (io) "Data Bit 3", 12 DB4 (io) "Data Bit 4", 13 DB5 (io) "Data Bit 5", 14 DB6 (io) "Data Bit 6", 15 DB7 (io) "Data Bit 7", 16 DB8 (io) "Data Bit 8", 17 DB9 (io) "Data Bit 9", 18 DB10 (io) "Data Bit 10", 19 DB11 (MSB) (io) "Data Bit 11. Most significant bit of 12-bit word.", 20 R/~{W} (in) "Read/Write Control Input (read = HIGH, write = LOW).", 21 A1 (in) "Register/DAC Select (C or D = HIGH, A or B = LOW).", 22 A0 (in) "Register/DAC Select (B or D = HIGH, A or C = LOW).", 23 ~{CS} (in) "Chip Select Input.", 24 NIC "Not Internally Connected. Pin has no internal connection to the device.", 25 VDD (power) "Positive Analog Supply Voltage, +5V nominal.", 26 VOUTD (out) "DAC D Voltage Output.", 27 VOUTC (out) "DAC C Voltage Output.", 28 VREFL (in) "Reference Input Voltage Low. Sets minimum output voltage for all DACs."

## DAC7624UB
designator U?
12-Bit Quad Voltage Output DAC, -40 to 85 degC, 28-pin SOIC (DW28), Green (RoHS & no Sb/Br); Manufacturer: Texas Instruments; PartNumber: DAC7624UB; DAC Channels: 4; DNL(Max)(+/-LSB): 1; Interface: Parallel; Power Consumption(Typ)(mW): 15; Resolution(Bits): 12; Settling Time(us): 10; SubFamily: Precision DAC (=<10MSPS); DatasheetVersion: SBAS083; PackageVersion: 4040000-6/G, 01/2011; PackageReference: DW28; PackageDescription: 28-Pin Plastic Small Outline, Body 17.90 x 7.50 mm, Pitch 1.27 mm; Supplier 1: Digi-Key; Supplier Part Number 1: DAC7624UB-ND; Supplier 2: Newark; Supplier Part Number 2: 35C1639; Supplier 3: Mouser; Supplier Part Number 3: 595-DAC7624UB; Eco-Plan: Green (RoHS & no Sb/Br); INL(Max)(+/-LSB): 1; Mounting Technology: Surface Mount; Code_JEDEC: MS-013; ComponentLink1Description: Manufacturer URL; ComponentLink1URL: http://www.ti.com/; ComponentLink2Description: Datasheet; ComponentLink2URL: http://www.ti.com/general/docs/lit/getliterature.tsp?genericPartNumber=DAC7624&fileType=pdf; ComponentLink3Description: Package Specification; ComponentLink3URL: http://www.ti.com/lit/ml/mpds175a/mpds175a.pdf
footprint TI-DW28_N (SOIC, 28-Leads, Body 17.9x7.5mm, Pitch 1.27mm, IPC Medium Density)
footprint TI-DW28_L (SOIC, 28-Leads, Body 17.9x7.5mm, Pitch 1.27mm, IPC High Density)
footprint TI-DW28_M (SOIC, 28-Leads, Body 17.9x7.5mm, Pitch 1.27mm, IPC Low Density)
pins: 1 VREFH (in) "Reference Input Voltage High. Sets maximum output voltage for all DACs.", 2 VOUTB (out) "DAC B Voltage Output.", 3 VOUTA (out) "DAC A Voltage Output.", 4 VSS (power) "Negative Analog Supply Voltage, 0V or -5V.", 5 GND (power) "Ground.", 6 ~{RESET} (in) "Asynchronous Reset Input. Sets DAC and input registers to either mid-scale (800H, DAC7624) or zero-scale (000H, DAC7625) when LOW.", 7 ~{LDAC} (in) "Load DAC Input. All DAC Registers are transparent when LOW.", 8 DB0 (LSB) (io) "Data Bit 0. Least significant bit of 12-bit word.", 9 DB1 (io) "Data Bit 1", 10 DB2 (io) "Data Bit 2", 11 DB3 (io) "Data Bit 3", 12 DB4 (io) "Data Bit 4", 13 DB5 (io) "Data Bit 5", 14 DB6 (io) "Data Bit 6", 15 DB7 (io) "Data Bit 7", 16 DB8 (io) "Data Bit 8", 17 DB9 (io) "Data Bit 9", 18 DB10 (io) "Data Bit 10", 19 DB11 (MSB) (io) "Data Bit 11. Most significant bit of 12-bit word.", 20 R/~{W} (in) "Read/Write Control Input (read = HIGH, write = LOW).", 21 A1 (in) "Register/DAC Select (C or D = HIGH, A or B = LOW).", 22 A0 (in) "Register/DAC Select (B or D = HIGH, A or C = LOW).", 23 ~{CS} (in) "Chip Select Input.", 24 NIC "Not Internally Connected. Pin has no internal connection to the device.", 25 VDD (power) "Positive Analog Supply Voltage, +5V nominal.", 26 VOUTD (out) "DAC D Voltage Output.", 27 VOUTC (out) "DAC C Voltage Output.", 28 VREFL (in) "Reference Input Voltage Low. Sets minimum output voltage for all DACs."